# Altium schematic symbol library Molex.SchLib: 14 symbols
Pins are listed as number, name and electrical type; pins without a type are passive.

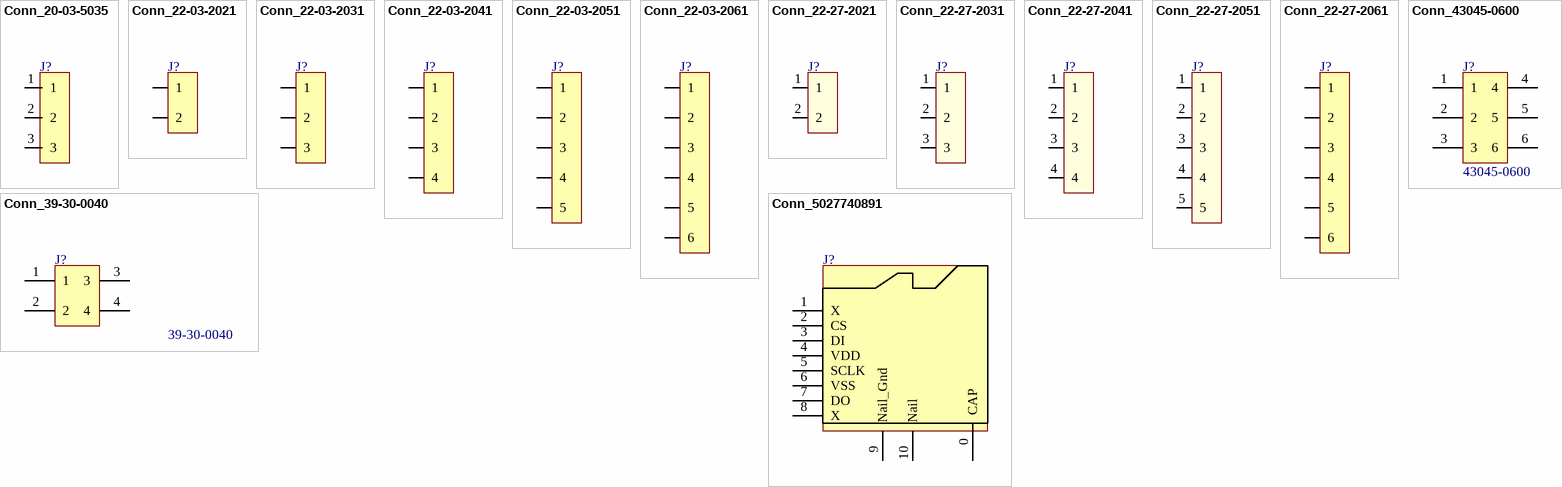
[diagram p0: symbols Conn_20-03-5035 to Conn_5027740891]

## Conn_20-03-5035
designator J?, comment 22-03-5035  (value not drawn)
CONN HEADER VERT 3POS 2.5MM; Manufacturer: MOLEX; Supplier 1: Farnell; Supplier Part Number 1: 9979620; Manufacturer Part Number: 22-03-5035; ComponentLink1URL: http://www.farnell.com/datasheets/1801024.pdf; ComponentLink1Description: Datasheet; ComponentLink2URL: http://www.farnell.com/cad/495071.pdf  http://www.farnell.com/cad/1533907.pdf  http://www.farnell.com/cad/1533907.pdf; ComponentLink2Description: Drawings
footprint Conn_20-03-5035
pins: 1, 2, 3

## Conn_22-03-2021
designator J?, comment 22-03-2021  (value not drawn)
CONN HEADER VERT 2POS 2.54MM; Manufacturer: MOLEX; Supplier 1: Farnell; Supplier Part Number 1: 9731075; Manufacturer Part Number: 22-03-2021; ComponentLink1URL: http://www.farnell.com/datasheets/1791308.pdf; ComponentLink1Description: Datasheet; ComponentLink2URL: http://www.farnell.com/cad/495071.pdf  http://www.farnell.com/cad/1533907.pdf  http://www.farnell.com/cad/1533907.pdf; ComponentLink2Description: Drawings
footprint Conn_22-03-2021
pins: 1, 2

## Conn_22-03-2031
designator J?, comment 22-03-2031  (value not drawn)
CONN HEADER VERT 3POS 2.54MM; Manufacturer: MOLEX; Supplier 1: Farnell; Supplier Part Number 1: 9731083; Manufacturer Part Number: 22-03-2031; ComponentLink1URL: http://www.farnell.com/datasheets/1785732.pdf; ComponentLink1Description: Datasheet; ComponentLink2URL: http://www.farnell.com/cad/495071.pdf  http://www.farnell.com/cad/1533907.pdf  http://www.farnell.com/cad/1533907.pdf; ComponentLink2Description: Drawings
footprint Conn_22-03-2031
pins: 1, 2, 3

## Conn_22-03-2041
designator J?, comment 22-03-2041  (value not drawn)
CONN HEADER VERT 4POS 2.54MM; Manufacturer: MOLEX; Manufacturer Part Number: 22-03-2041; Supplier 1: Farnell; Supplier Part Number 1: 9731091; ComponentLink1Description: Datasheet; ComponentLink1URL: https://www.molex.com/pdm_docs/sd/022032041_sd.pdf
footprint Conn_22-03-2041
pins: 1, 2, 3, 4

## Conn_22-03-2051
designator J?, comment 22-03-2051  (value not drawn)
CONN HEADER VERT 5POS 2.54MM; Manufacturer: MOLEX; Supplier 1: Farnell; Supplier Part Number 1: 9731105; Manufacturer Part Number: 22-03-2051; ComponentLink1URL: http://www.farnell.com/datasheets/1803075.pdf; ComponentLink1Description: Datasheet; ComponentLink2URL: http://www.farnell.com/cad/1533907.pdf; ComponentLink2Description: Drawings
footprint Conn_22-03-2051
pins: 1, 2, 3, 4, 5

## Conn_22-03-2061
designator J?, comment 22-03-2061  (value not drawn)
CONN HEADER VERT 6POS 2.54MM; Manufacturer: MOLEX; Supplier 1: Farnell; Supplier Part Number 1: 9731113; Manufacturer Part Number: 22-03-2061; ComponentLink1URL: http://www.farnell.com/datasheets/1791310.pdf; ComponentLink1Description: Datasheet; ComponentLink2URL: http://www.farnell.com/cad/1533907.pdf; ComponentLink2Description: Drawings
footprint Conn_22-03-2061
pins: 1, 2, 3, 4, 5, 6

## Conn_22-27-2021
designator J?, comment 22-27-2021  (value not drawn)
CONN HEADER VERT KK 2POS 2.54MM; Manufacturer: MOLEX; Supplier 1: Farnell; Supplier Part Number 1: 9731148; Manufacturer Part Number: 22-27-2021; ComponentLink1URL: http://www.farnell.com/datasheets/1795001.pdf; ComponentLink1Description: Datasheet; ComponentLink2URL: http://www.farnell.com/cad/1595526.pdf; ComponentLink2Description: Drawings
footprint Conn_22-27-2021
pins: 1, 2

## Conn_22-27-2031
designator J?, comment 22-27-2031  (value not drawn)
CONN HEADER VERT KK 3POS 2.54MM; Manufacturer: MOLEX; Supplier 1: Farnell; Supplier Part Number 1: 9731156; Manufacturer Part Number: 22-27-2031; ComponentLink1URL: http://www.farnell.com/datasheets/1803078.pdf; ComponentLink1Description: Datasheet; ComponentLink2URL: http://www.farnell.com/cad/1595526.pdf; ComponentLink2Description: Drawings
footprint Conn_22-27-2031
pins: 1, 2, 3

## Conn_22-27-2041
designator J?, comment 22-27-2041  (value not drawn)
CONN HEADER VERT KK 4POS 2.54MM; Manufacturer: MOLEX; Supplier 1: Farnell; Supplier Part Number 1: 9731164; Manufacturer Part Number: 22-27-2041; ComponentLink1URL: http://www.farnell.com/datasheets/1803079.pdf; ComponentLink1Description: Datasheet; ComponentLink2URL: http://www.farnell.com/cad/1595526.pdf; ComponentLink2Description: Drawings
footprint Conn_22-27-2041
pins: 1, 2, 3, 4 (power)

## Conn_22-27-2051
designator J?, comment 22-27-2051  (value not drawn)
CONN HEADER VERT KK 5POS 2.54MM; Manufacturer: MOLEX; Supplier 1: Farnell; Supplier Part Number 1: 9731679; Manufacturer Part Number: 22-27-2051; ComponentLink1URL: http://www.farnell.com/datasheets/1802972.pdf; ComponentLink1Description: Datasheet; ComponentLink2URL: http://www.farnell.com/cad/1595526.pdf; ComponentLink2Description: Drawings
footprint Conn_22-27-2051
pins: 1, 2, 3, 4, 5

## Conn_22-27-2061
designator J?, comment 22-27-2061  (value not drawn)
CONN HEADER VERT KK 6POS 2.54MM; Manufacturer: MOLEX; Supplier 1: Farnell; Supplier Part Number 1: 9731172; Manufacturer Part Number: 22-27-2061; ComponentLink1URL: http://www.farnell.com/datasheets/1791334.pdf; ComponentLink1Description: Datasheet; ComponentLink2URL: http://www.farnell.com/cad/1595526.pdf; ComponentLink2Description: Drawings
footprint Conn_22-27-2061
pins: 1, 2, 3, 4, 5, 6

## Conn_39-30-0040
designator J?, comment 39-30-0040
CONN HEADER R/A  MINI-FIT 4POS 4.2MM; Manufacturer: MOLEX; Supplier 1: Farnell; Supplier Part Number 1: 1697133; Manufacturer Part Number: 39-30-0040; ComponentLink1URL: https://www.molex.com/pdm_docs/sd/039300040_sd.pdf; ComponentLink1Description: Datasheet
footprint Conn_39-30-0040 (4 pins, straight)
pins: 1, 2, 3, 4

## Conn_43045-0600
designator J?, comment 43045-0600
CONN HEADER R/A MICRO-FIT 6POS 3MM; Manufacturer: MOLEX; Supplier 1: Farnell; Manufacturer Part Number: 43045-0600; ComponentLink1URL: http://www.farnell.com/datasheets/2216475.pdf; ComponentLink1Description: Datasheet; Supplier Part Number 1: 1012252
footprint Conn_43045-0600 (6 pins, straight)
pins: 1, 2, 3, 4, 5, 6

## Conn_5027740891
designator J?, comment 5027740891  (value not drawn)
CONN MICRO SD CARD PUSH-PUSH R/A; Manufacturer: MOLEX; Manufacturer Part Number: 5027740891; Supplier 1: Farnell; Supplier Part Number 1: 2064063; ComponentLink2Description: Drawings; ComponentLink2URL: https://www.molex.com/pdm_docs/sd/5027740891_sd.pdf; ComponentLink1Description: Datasheet; ComponentLink1URL: https://www.molex.com/pdm_docs/sd/5027740891_sd.pdf
footprint Conn_502774-0891
pins: 0 CAP, 1 X, 2 CS, 3 DI, 4 VDD, 5 SCLK, 6 VSS, 7 DO, 8 X, 9 Nail_Gnd, 10 Nail